# EAGLE library part L293D(D)_ST_SMD (library H-Bridges)
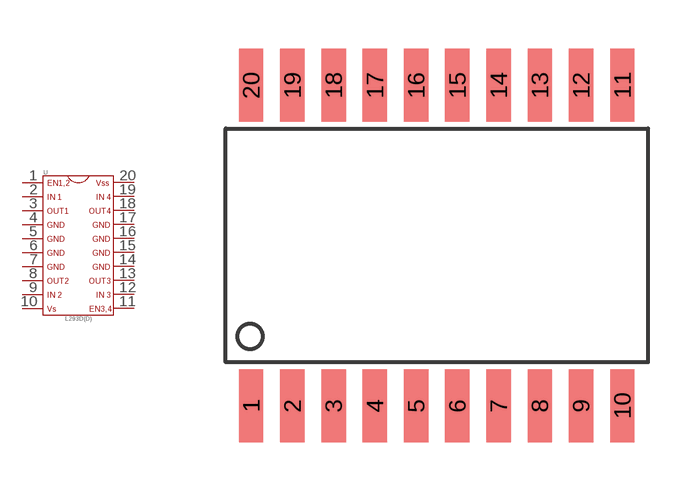
[diagram p0: symbol with the pads of SOIC-20; footprint SOIC-20]

Designator prefix U

## L293D(D)_ST_SMD  [SOIC-20]
1  1  pas
2  2  pas
3  3  pas
4  4  pas
5  5  pas
6  6  pas
7  7  pas
8  8  pas
9  9  pas
10  10  pas
11  11  pas
12  12  pas
13  13  pas
14  14  pas
15  15  pas
16  16  pas
17  17  pas
18  18  pas
19  19  pas
20  20  pas

## Footprint SOIC-20 (pad centres in mm)
smd 0.75 x 2.25: 1 -5.715,-4.935; 2 -4.445,-4.935; 3 -3.175,-4.935; 4 -1.905,-4.935; 5 -0.635,-4.935; 6 0.635,-4.935; 7 1.905,-4.935; 8 3.175,-4.935; 9 4.445,-4.935; 10 5.715,-4.935; 11 5.715,4.935; 12 4.445,4.935; 13 3.175,4.935; 14 1.905,4.935; 15 0.635,4.935; 16 -0.635,4.935; 17 -1.905,4.935; 18 -3.175,4.935; 19 -4.445,4.935; 20 -5.715,4.935